# Altium footprint library Balance.PcbLib: 29 footprints (part 2 of 2)
Each footprint in its own frame and in the unit in brackets; x right, y up, seen from the top. Pads: shape width x height; smd on the part's side, far side on the other; paste and mask are expansions set on the pad; w line width, h text height; cw(c..) or ccw(c..) is an arc to the next point about the centre after c.
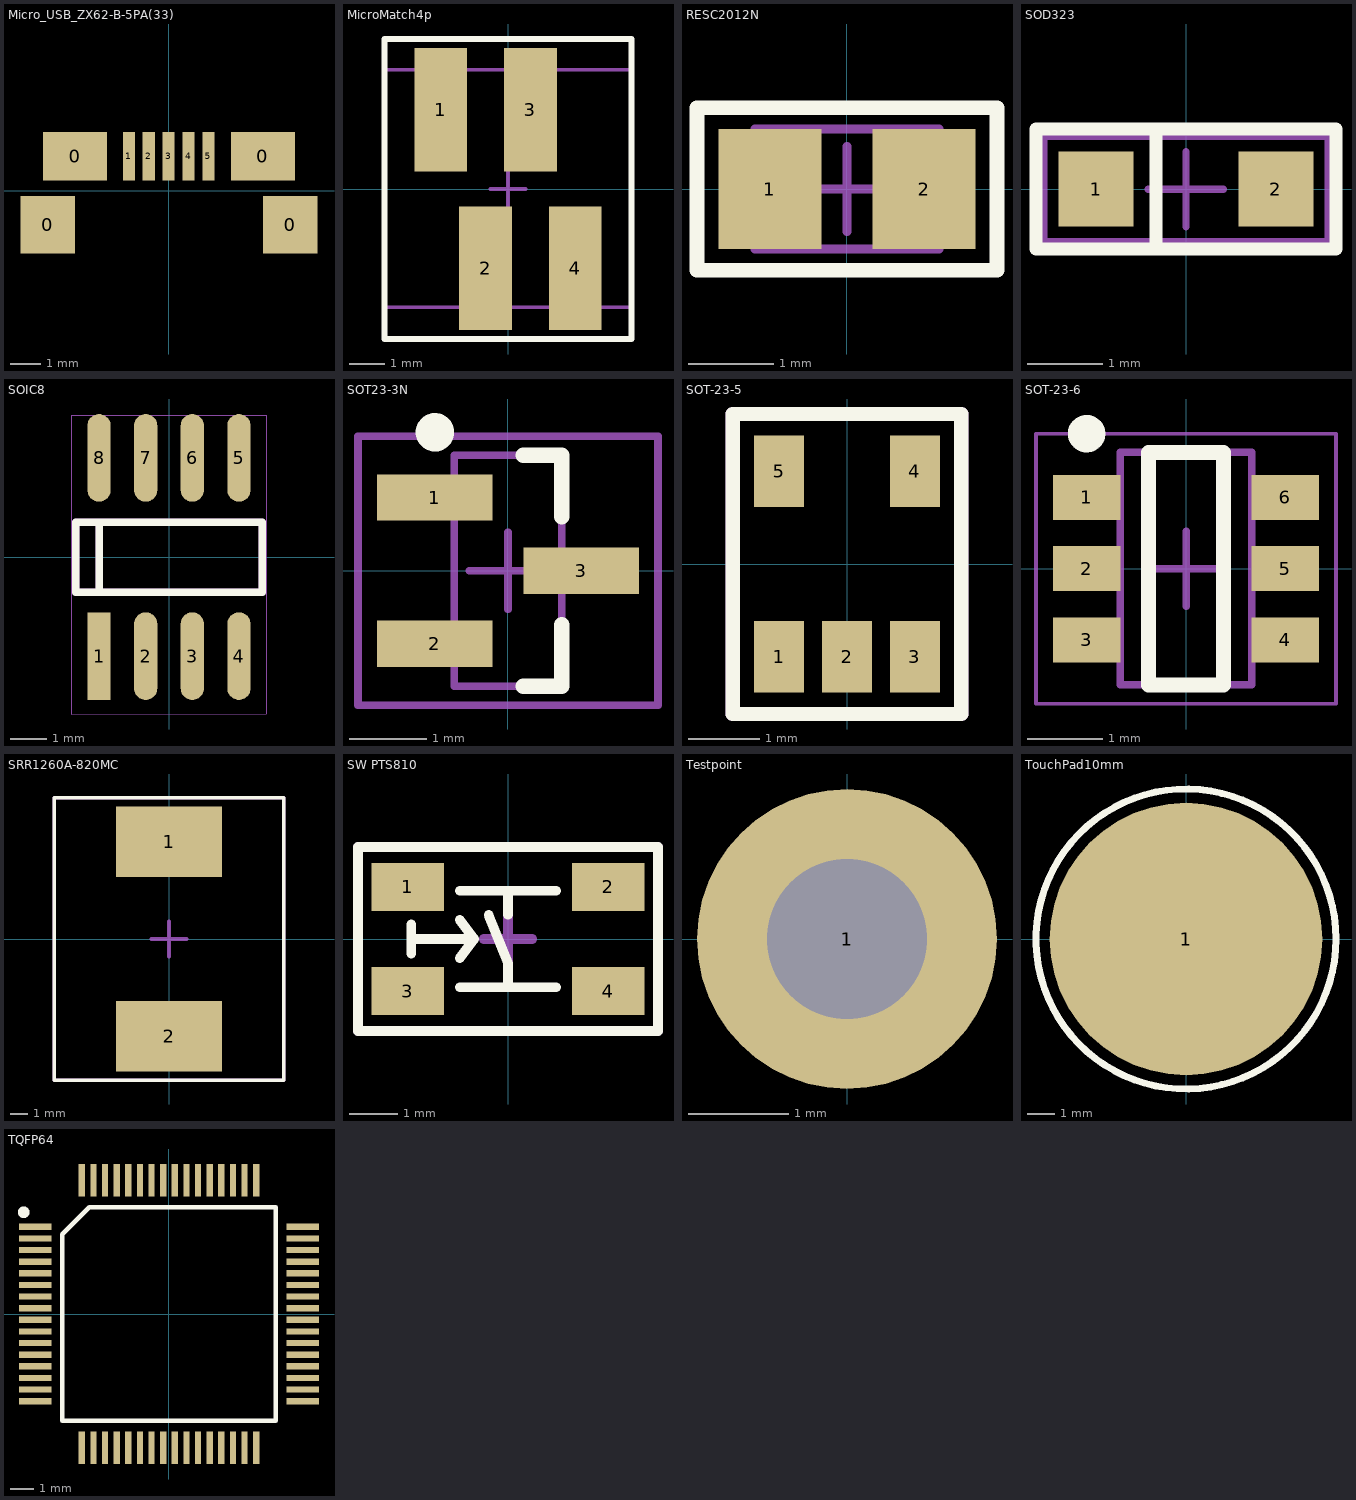
[diagram p1: the footprints below, top view; thin cyan lines are the x and y axes]

## Micro_USB_ZX62-B-5PA(33) [mm] "Micro USB Connector"
pads (9):
  rect 1.8x1.9 smd: 0(-4,-1.125) 0(4,-1.125)
  rect 2.1x1.6 smd: 0(-3.1,1.125) 0(3.1,1.125)
  rect 0.4x1.6 smd: 1(-1.325,1.125) 2(-0.669,1.125) 3(-0.012,1.125) 4(0.644,1.125) 5(1.3,1.125)
3D body "ZX62-B-5PA.stp": height 2.78, standoff -0.17, extent -4.062,-3.95 4.012,1.65

## MicroMatch4p [mm]
pads (4):
  rect 1.5x3.5 smd: 1(-1.905,2.25) 2(-0.635,-2.25) 3(0.635,2.25) 4(1.905,-2.25)
Top Overlay:
  lines w0.17: -3.5,-4.25 3.5,-4.25 3.5,4.25 -3.5,4.25 -3.5,-4.25
Mechanical 13:
  lines w0.1: -3.505,-3.35 3.505,-3.35 3.505,3.375 -3.505,3.375 -3.505,-3.35
Mechanical 15:
  lines w0.1: -0.5,0 0.5,0 ; 0,-0.5 0,0.5 ; -3.505,-4.25 -3.505,4.25 3.505,4.25 3.505,-4.25 -3.505,-4.25
3D body "Micro_match_4p_smd.stp": height 5.3, standoff 0.05, extent -3.55,-3.437 3.55,3.463

## RESC2012N [mm] "Chip Resistor, Body 2.0x1.3mm, IPC Medium Density"
height 0.65
pads (2):
  rect 1.2x1.4 smd: 1(-0.9,0) 2(0.9,0)
Top Overlay:
  lines w0.17: -1.75,-0.95 -1.75,0.95 1.75,0.95 1.75,-0.95 -1.75,-0.95
Mechanical 13:
  lines w0.1: -1.075,-0.7 -1.075,0.7 1.075,0.7 1.075,-0.7 -1.075,-0.7
Mechanical 15:
  lines w0.1: -0.5,0 0.5,0 ; 0,-0.5 0,0.5 ; -1.75,-0.95 1.75,-0.95 1.75,0.95 -1.75,0.95 -1.75,-0.95
3D body "User Library-0805 SMD Resistor.step": height 0.78, standoff 0, extent -1,-0.625 1,0.625

## SOD323 [mm]
pads (2):
  rect 1x1 smd: 1(-1.2,0) 2(1.2,0)
Top Overlay:
  lines w0.17: -0.4,-0.8 -0.4,0.8 ; -2,-0.8 -2,0.8 2,0.8 2,-0.8 -2,-0.8
Mechanical 15:
  lines w0.1: -0.5,0 0.5,0 ; 0,-0.5 0,0.5 ; -1.9,-0.7 1.9,-0.7 1.9,0.7 -1.9,0.7 -1.9,-0.7
3D body "User Library-SOD2513X11.step": height 1.1, standoff 0, extent -1.35,-0.625 1.35,0.625

## SOIC8 [mil]
height 1
pads (8):
  rect 25x94 smd: 1(-75,-106.3)
  oval 25x94 smd: 2(-25,-106.3) 3(25,-106.3) 4(75,-106.3) 5(75,106.3) 6(25,106.3) 7(-25,106.3) 8(-75,106.3)
Top Overlay:
  lines w8: -75,-37.93 -75,37.07 ; -100,-37.93 -100,37.07 100,37.07 100,-37.93 -100,-37.93
Mechanical 1:
  lines w1: -104,-168.3 104,-168.3 104,151.7 -104,151.7 -104,-168.3
  lines w8: -75,-37.93 -75,37.07 ; -100,-37.93 -100,37.07 100,37.07 100,-37.93 -100,-37.93
3D body "SW3dPS-SOIC08-150.STEP": height 68.9, standoff 0, extent -95.66,-116.14 93.31,112.21

## SOT23-3N [mm] "SOT23, 3-Leads, Body 2.9x1.3mm, Pitch 0.95mm, Lead Span 2.5mm, IPC Medium Density"
height 1.1
pads (3):
  rect 1.5x0.6 smd: 1(-0.95,0.95) 2(-0.95,-0.95) 3(0.95,0)
Top Overlay:
  circle w0.25: c-0.95,1.8 r0.125
  lines w0.2: 0.2,-1.5 0.7,-1.5 0.7,-0.7 ; 0.2,1.5 0.7,1.5 0.7,0.7
Mechanical 13:
  lines w0.1: -0.7,-1.5 0.7,-1.5 0.7,1.5 -0.7,1.5 -0.7,-1.5
Mechanical 15:
  lines w0.1: -0.5,0 0.5,0 ; 0,-0.5 0,0.5 ; -1.95,-1.75 1.95,-1.75 1.95,1.75 -1.95,1.75 -1.95,-1.75
3D body "User Library-SOT23-3.step": height 1.3, standoff 0, extent -1.4,-1.45 1.4,1.45

## SOT-23-5 [mm]
pads (5):
  rect 0.7x1 smd: 1(-0.95,-1.3) 2(0,-1.3) 3(0.95,-1.3) 4(0.95,1.3) 5(-0.95,1.3)
Top Overlay:
  lines w0.2: -1.6,-2.1 1.6,-2.1 1.6,2.1 -1.6,2.1 -1.6,-2.1
Mechanical 1:
  lines w0.2: -1.6,-2.1 -1.6,2.1 1.6,2.1 1.6,-2.1 -1.6,-2.1
3D body "User Library-SOT23-5-2.step": height 1.45, standoff 0, extent -1.45,-1.4 1.45,1.4

## SOT-23-6 [mm] "SOT23, 6-Leads, Body 2.95x2.55mm, Pitch 0.95mm, IPC Medium Density"
height 1.45
pads (6):
  rect 0.9x0.6 smd: 1(-1.325,0.95) 2(-1.325,0) 3(-1.325,-0.95) 4(1.325,-0.95) 5(1.325,0) 6(1.325,0.95)
Top Overlay:
  circle w0.25: c-1.325,1.8 r0.125
  lines w0.2: -0.5,-1.55 0.5,-1.55 0.5,1.55 -0.5,1.55 -0.5,-1.55
Mechanical 13:
  lines w0.1: -0.875,-1.55 -0.875,1.55 0.875,1.55 0.875,-1.55 -0.875,-1.55
Mechanical 15:
  lines w0.05: -2,-1.8 -2,1.8 2,1.8 2,-1.8 -2,-1.8
  lines w0.1: -0.5,0 0.5,0 ; 0,-0.5 0,0.5
3D body "User Library-SOT23-6.step": height 1.45, standoff 0, extent -1.4,-1.45 1.4,1.45

## SRR1260A-820MC [mm]
pads (2):
  rect 6x4 smd: 1(0,5.5) 2(0,-5.5)
Top Overlay:
  lines w0.2: -6.5,-8 6.5,-8 6.5,8 -6.5,8 -6.5,-8
Mechanical 15:
  lines w0.2: -1,0 1,0 ; 0,-1 0,1 ; -6.5,-8 -6.5,8 6.5,8 6.5,-8 -6.5,-8
3D body "User Library-SRR1260-680M.step": height 6.29, standoff 0, extent -6.2,-6.25 6.3,6.25

## SW PTS810 [mm] "SW PTS810"
pads (4):
  rect 1.5x1 smd: 1(-2.075,1.075) 2(2.075,1.075) 3(-2.075,-1.075) 4(2.075,-1.075)
Top Overlay:
  lines w0.2: -2,-0.3 -2,0.3 ; -2,0 -0.7,0 ; -1,-1 1,-1 ; -1,-0.4 -0.7,0 ; -1,0.4 -0.7,0 ; -1,1 1,1 ; -0.4,0.5 0,-0.5 0,-1 ; 0,0.5 0,1 ; -3.1,-1.9 3.1,-1.9 3.1,1.9 -3.1,1.9 -3.1,-1.9
Mechanical 15:
  lines w0.2: -0.5,0 0.5,0 ; 0,-0.5 0,0.5 ; -3.1,-1.9 -3.1,1.9 3.1,1.9 3.1,-1.9 -3.1,-1.9
3D body "Y97LT25BADBFP_-PTS810 SJ 250 SMTR.stp": height 2.49, standoff -0.01, extent -2.287,-1.6 2.288,1.6

## Testpoint [mm]
pads (1):
  round 3 hole 1.6: 1(0,0)
3D body "User Library-testpoint.step": height 5.65, standoff -3.23, extent -1.575,-1.575 1.6,1.6

## TouchPad10mm [mm]
pads (1):
  round 10 smd paste-20: 1(0,0)
Top Overlay:
  circle w0.254: c0,0 r5.5

## TQFP64 [mm]
pads (64):
  rect 1.4x0.27 smd: 1(-5.75,3.75) 2(-5.75,3.25) 3(-5.75,2.75) 4(-5.75,2.25) 5(-5.75,1.75) 6(-5.75,1.25) 7(-5.75,0.75) 8(-5.75,0.25) 9(-5.75,-0.25) 10(-5.75,-0.75) 11(-5.75,-1.25) 12(-5.75,-1.75) 13(-5.75,-2.25) 14(-5.75,-2.75) 15(-5.75,-3.25) 16(-5.75,-3.75) 33(5.75,-3.75) 34(5.75,-3.25) 35(5.75,-2.75) 36(5.75,-2.25) 37(5.75,-1.75) 38(5.75,-1.25) 39(5.75,-0.75) 40(5.75,-0.25) 41(5.75,0.25) 42(5.75,0.75) 43(5.75,1.25) 44(5.75,1.75) 45(5.75,2.25) 46(5.75,2.75) 47(5.75,3.25) 48(5.75,3.75)
  rect 0.27x1.4 smd: 17(-3.75,-5.75) 18(-3.25,-5.75) 19(-2.75,-5.75) 20(-2.25,-5.75) 21(-1.75,-5.75) 22(-1.25,-5.75) 23(-0.75,-5.75) 24(-0.25,-5.75) 25(0.25,-5.75) 26(0.75,-5.75) 27(1.25,-5.75) 28(1.75,-5.75) 29(2.25,-5.75) 30(2.75,-5.75) 31(3.25,-5.75) 32(3.75,-5.75) 49(3.75,5.75) 50(3.25,5.75) 51(2.75,5.75) 52(2.25,5.75) 53(1.75,5.75) 54(1.25,5.75) 55(0.75,5.75) 56(0.25,5.75) 57(-0.25,5.75) 58(-0.75,5.75) 59(-1.25,5.75) 60(-1.75,5.75) 61(-2.25,5.75) 62(-2.75,5.75) 63(-3.25,5.75) 64(-3.75,5.75)
Top Overlay:
  circle w0.254: c-6.25,4.375 r0.125
  lines w0.2: -4.59,-4.59 4.59,-4.59 4.59,4.59 -3.43,4.59 -4.59,3.43 -4.59,-4.59
3D body "TQFP64.step": height 1.1, standoff 0, extent -6.009,-6.009 6.009,6.009